# EAGLE library part SN74LVC2G17 (library ICs)
Buffer, Non-Inverting 2 Element 1 Bit per Element Push-Pull Output SOT-23-6
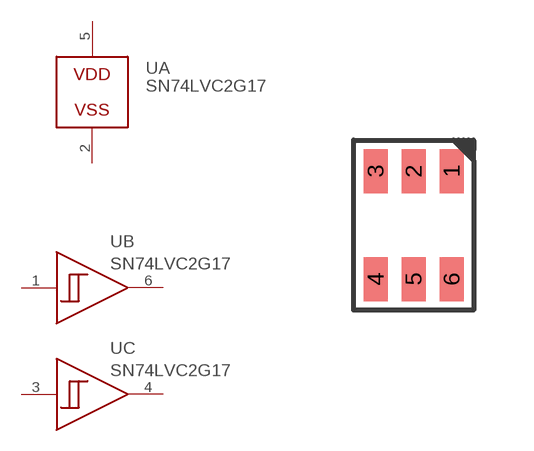
[diagram p330: symbol with the pads of SOT23-6; footprint SOT23-6]

Designator prefix U; gates A=PWR B=SCHMITT_ONLY C=SCHMITT_ONLY

## SN74LVC2G17DBVR (DIGIKEY: 296-SN74LVC2G17DBVRCT-ND; HEIGHT: 1; PRICE_PER: 0.33; VALUE: SN74LVC2G17)  [SOT23-6]
1  B:A
2  A:GND
3  C:A
4  C:Q
5  A:V+
6  B:Q

## Footprint SOT23-6 (pad centres in mm)
smd 0.6 x 1.1: 1 0.95,1.35; 2 0,1.35; 3 -0.95,1.35; 4 -0.95,-1.35; 5 0,-1.35; 6 0.95,-1.35